# EAGLE library part CTX410805-R (library Coiltronics_By_element14_Batch_1)
CCFL TRANSFORMER, 20V, 14 W
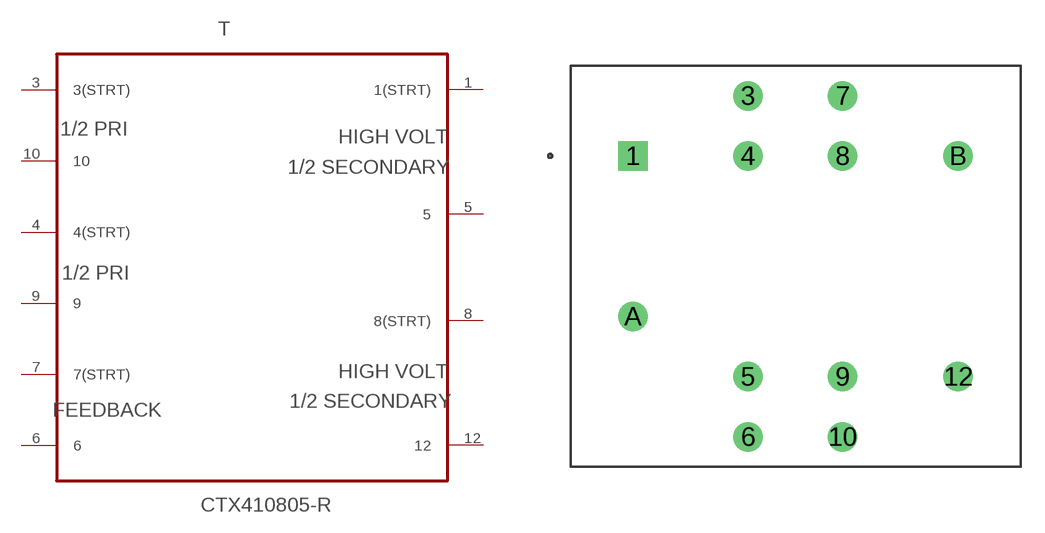
[diagram p1: symbol with the pads of XFMR_CTX410805-R; footprint XFMR_CTX410805-R]

Designator prefix T

## CTX410805-R (INDUCTANCE: 24µH; MPN: CTX410805-R; OC_FARNELL: 1612096; OC_NEWARK: 28K2985; SUPPLIER: Coiltronics)  [XFMR_CTX410805-R]
1  1(STRT)  pas
3  3(STRT)  pas
4  4(STRT)  pas
5  5  pas
6  6  pas
7  7(STRT)  pas
8  8(STRT)  pas
9  9  pas
10  10  pas
12  12  pas

## Footprint XFMR_CTX410805-R (pad centres in mm)
drill 1.245 square: 1 -20.599,16.51
drill 1.245: 3 -13.31,20.32; 4 -13.31,16.51; 5 -13.31,2.54; 6 -13.31,-1.27; 7 -7.315,20.32; 8 -7.315,16.51; 9 -7.315,2.54; 10 -7.315,-1.27; 12 0,2.54; A -20.599,6.35; B 0,16.51